# Altium footprint library Components - 19.03.22 - 04.12.PcbLib: 1 footprints
Each footprint in its own frame and in the unit in brackets; x right, y up, seen from the top. Pads: shape width x height; smd on the part's side, far side on the other; paste and mask are expansions set on the pad; w line width, h text height; cw(c..) or ccw(c..) is an arc to the next point about the centre after c.
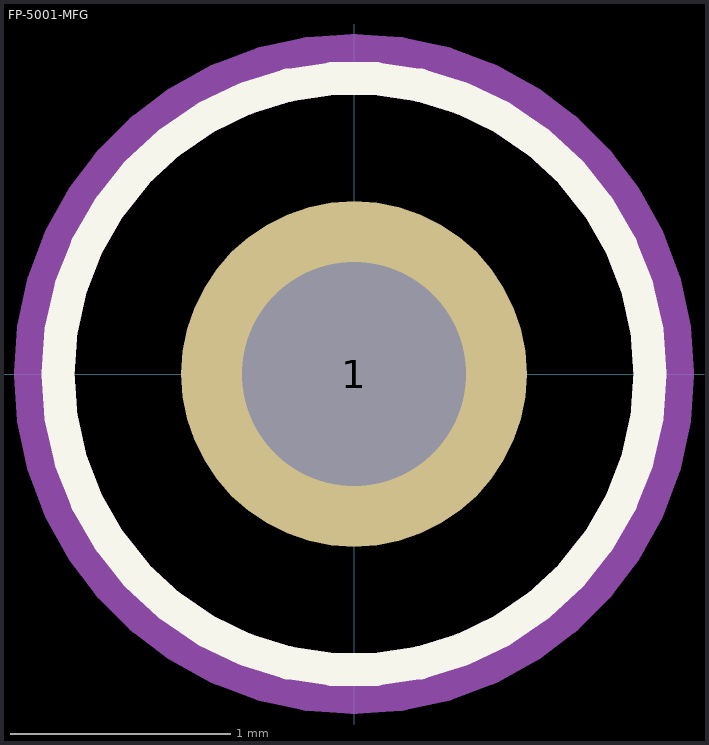
[diagram p0: the footprint, top view; thin cyan lines are the x and y axes]

## FP-5001-MFG [mm]
pads (1):
  round 1.57 hole 1.016 paste-1000 mask+0: 1(0,0)
Top Overlay:
  circle w0.15: c0,0 r1.345
Top Assembly:
  text ".Designator" at 0,0.188 h1
Top 3D Body:
  circle w0.15: c0,0 r1.345
Top Courtyard:
  lines w0.2: -1.445,0 ccw(c0,0) 1.445,0 ccw(c0,0) -1.445,0
Top Component Center:
  lines w0.1: -0.5,0 0.5,0 ; 0,-0.5 0,0.5
3D body "Conn_Keystone_5001_eec.STEP": height 0.25, standoff 0, extent -1.445,-1.445 1.445,1.445